# Altium footprint library PcbLib1.PcbLib: 3 footprints
Each footprint in its own frame and in the unit in brackets; x right, y up, seen from the top. Pads: shape width x height; smd on the part's side, far side on the other; paste and mask are expansions set on the pad; w line width, h text height; cw(c..) or ccw(c..) is an arc to the next point about the centre after c.
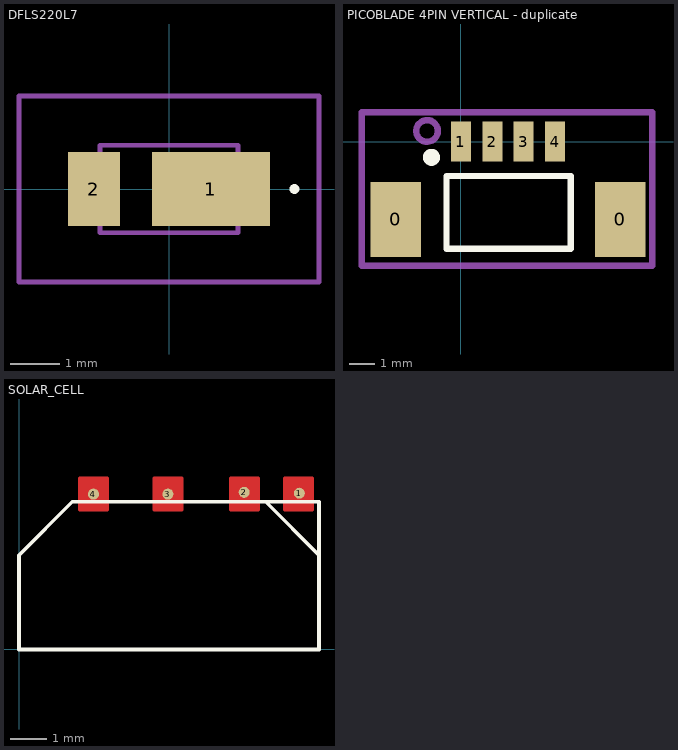
[diagram p0: the footprints below, top view; thin cyan lines are the x and y axes]

## DFLS220L7 [mm]
pads (2):
  rect 2.4x1.5 smd: 1(0.85,0)
  rect 1.05x1.5 smd: 2(-1.525,0)
Top Overlay:
  lines w0.1: 2.5,0 ccw(c2.55,0) 2.6,0 ccw(c2.55,0) 2.5,0
Mechanical 13:
  lines w0.1: -1.4,-0.89 -1.4,0.89 1.4,0.89 1.4,-0.89 -1.4,-0.89
Mechanical 15:
  lines w0.1: -3.05,-1.89 -3.05,1.89 3.05,1.89 3.05,-1.89 -3.05,-1.89
3D body "DFLS220L-7.stp": height 1.1, standoff 0, extent -1.945,-0.89 1.9,0.89

## PICOBLADE 4PIN VERTICAL - duplicate [mm]
height 3.1
pads (6):
  rect 2x3 smd: 0(-2.6,-3.1) 0(6.35,-3.1)
  rect 0.8x1.6 smd: 1(0,0) 2(1.25,0) 3(2.5,0) 4(3.75,0)
Top Overlay:
  circle w0.5: c-1.175,-0.625 r0.09
  lines w0.254: -0.574,-4.275 -0.574,-1.372 4.375,-1.372 4.375,-4.275 -0.574,-4.275
Mechanical 15:
  circle w0.254: c-1.35,0.425 r0.432
  lines w0.254: -3.95,-4.95 -3.95,1.175 7.625,1.175 7.625,-4.95 -3.95,-4.95
  text ".Designator" at -3.341,-1.212 h0.89
3D body "User Library-molex 5339853398-0471.STEP": height 4.7, standoff 0, extent -3.15,-4.425 7,-0.225

## SOLAR_CELL [mm]
pads (4):
  round 0.3 smd: 1(7.625,4.25) 2(6.125,4.275) 3(4.05,4.225) 4(2.025,4.225)
Top Layer:
  region: 7.23,3.8 7.98,3.8 7.98,4.65 7.23,4.65
  region: 5.76,3.8 5.76,4.65 6.51,4.65 6.51,3.8
  region: 3.68,3.8 3.68,4.65 4.43,4.65 4.43,3.8
  region: 1.65,3.8 1.65,4.65 2.4,4.65 2.4,3.8
  lines w0.1: 1.65,3.8 2.4,3.8 2.4,4.65 1.65,4.65 1.65,3.8 ; 3.68,3.8 4.43,3.8 4.43,4.65 3.68,4.65 3.68,3.8 ; 5.76,3.8 6.51,3.8 6.51,4.65 5.76,4.65 5.76,3.8 ; 7.23,3.8 7.98,3.8 7.98,4.65 7.23,4.65 7.23,3.8
Top Overlay:
  lines w0.1: 6.71,4.016 8.16,2.566 ; 8.16,2.566 8.16,4.016 1.45,4.016 0,2.566 0,0 8.16,0 8.16,2.566